# Altium schematic symbol library 2022-03-20_17-57-44.SchLib: 31 symbols
Pins are listed as number, name and electrical type; pins without a type are passive.

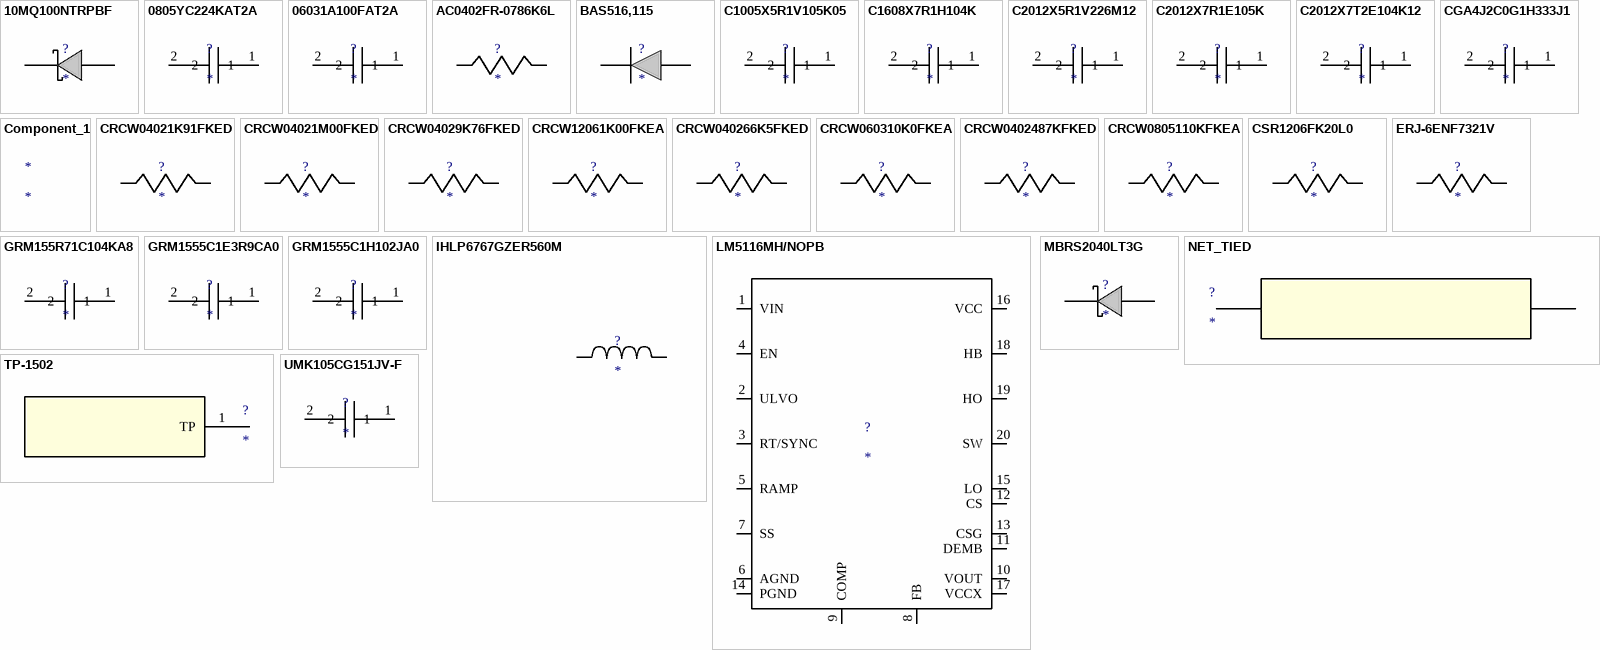
[diagram p0: symbols 10MQ100NTRPBF to UMK105CG151JV-F]

## 10MQ100NTRPBF
designator ?
No Description Available; Manufacturer_Part_Number: 10MQ100NTRPBF; Vendor: International Rectifier; Copyright: Copyright (C) 2018 Accelerated Designs. All rights reserved; RefDes: RefDes; Type: Type; Value: Value
footprint SMA
pins: 1 K, 2 A

## 0805YC224KAT2A
designator ?
No Description Available; Manufacturer_Part_Number: 0805YC224KAT2A; Vendor: AVX; Copyright: Copyright (C) 2018 Accelerated Designs. All rights reserved; RefDes: RefDes; TYPE: TYPE; Value: Value
footprint 0805
pins: 1, 2

## 06031A100FAT2A
designator ?
No Description Available; Manufacturer_Part_Number: 06031A100FAT2A; Vendor: AVX; Copyright: Copyright (C) 2018 Accelerated Designs. All rights reserved; RefDes: RefDes; TYPE: TYPE; Value: Value
footprint 0603
pins: 1, 2

## AC0402FR-0786K6L
designator ?
No Description Available; Manufacturer_Part_Number: AC0402FR-0786K6L; Vendor: Yageo America; Copyright: Copyright (C) 2018 Accelerated Designs. All rights reserved; RefDes: RefDes; TYPE: TYPE; Value: Value
footprint 0402
pins: 1, 2

## BAS516,115
designator ?
No Description Available; Manufacturer_Part_Number: BAS516,115; Vendor: Nexperia; Copyright: Copyright (C) 2018 Accelerated Designs. All rights reserved; RefDes: RefDes; Type: Type; Value: Value
footprint SOD-523
pins: 1 K, 2 A

## C1005X5R1V105K05
designator ?
No Description Available; Manufacturer_Part_Number: C1005X5R1V105K050BC; Vendor: TDK; Copyright: Copyright (C) 2018 Accelerated Designs. All rights reserved; RefDes: RefDes; TYPE: TYPE; Value: Value
footprint 0402
pins: 1, 2

## C1608X7R1H104K
designator ?
No Description Available; Manufacturer_Part_Number: C1608X7R1H104K; Vendor: TDK; Copyright: Copyright (C) 2018 Accelerated Designs. All rights reserved; RefDes: RefDes; TYPE: TYPE; Value: Value
footprint 1608
pins: 1, 2

## C2012X5R1V226M12
designator ?
No Description Available; Manufacturer_Part_Number: C2012X5R1V226M125AC; Vendor: TDK; Copyright: Copyright (C) 2018 Accelerated Designs. All rights reserved; RefDes: RefDes; TYPE: TYPE; Value: Value
footprint 0805
pins: 1, 2

## C2012X7R1E105K
designator ?
No Description Available; Manufacturer_Part_Number: C2012X7R1E105K; Vendor: TDK; Copyright: Copyright (C) 2018 Accelerated Designs. All rights reserved; RefDes: RefDes; TYPE: TYPE; Value: Value
footprint 0805
pins: 1, 2

## C2012X7T2E104K12
designator ?
No Description Available; Manufacturer_Part_Number: C2012X7T2E104K125AA; Vendor: TDK; Copyright: Copyright (C) 2018 Accelerated Designs. All rights reserved; RefDes: RefDes; TYPE: TYPE; Value: Value
footprint 0805
pins: 1, 2

## CGA4J2C0G1H333J1
designator ?
No Description Available; Manufacturer_Part_Number: CGA4J2C0G1H333J125AA; Vendor: TDK; Copyright: Copyright (C) 2018 Accelerated Designs. All rights reserved; RefDes: RefDes; TYPE: TYPE; Value: Value
footprint 0805
pins: 1, 2

## Component_1
designator *

## CRCW04021K91FKED
designator ?
No Description Available; Manufacturer_Part_Number: CRCW04021K91FKED; Vendor: Vishay-Dale; Copyright: Copyright (C) 2018 Accelerated Designs. All rights reserved; RefDes: RefDes; TYPE: TYPE; Value: Value
footprint 0402
pins: 1, 2

## CRCW04021M00FKED
designator ?
No Description Available; Manufacturer_Part_Number: CRCW04021M00FKED; Vendor: Vishay-Dale; Copyright: Copyright (C) 2018 Accelerated Designs. All rights reserved; RefDes: RefDes; TYPE: TYPE; Value: Value
footprint 0402
pins: 1, 2

## CRCW04029K76FKED
designator ?
No Description Available; Manufacturer_Part_Number: CRCW04029K76FKED; Vendor: Vishay-Dale; Copyright: Copyright (C) 2018 Accelerated Designs. All rights reserved; RefDes: RefDes; TYPE: TYPE; Value: Value
footprint 0402
pins: 1, 2

## CRCW12061K00FKEA
designator ?
No Description Available; Manufacturer_Part_Number: CRCW12061K00FKEA; Vendor: Vishay-Dale; Copyright: Copyright (C) 2018 Accelerated Designs. All rights reserved; RefDes: RefDes; TYPE: TYPE; Value: Value
footprint 1206
pins: 1, 2

## CRCW040266K5FKED
designator ?
No Description Available; Manufacturer_Part_Number: CRCW040266K5FKED; Vendor: Vishay-Dale; Copyright: Copyright (C) 2018 Accelerated Designs. All rights reserved; RefDes: RefDes; TYPE: TYPE; Value: Value
footprint 0402
pins: 1, 2

## CRCW060310K0FKEA
designator ?
No Description Available; Manufacturer_Part_Number: CRCW060310K0FKEA; Vendor: Vishay-Dale; Copyright: Copyright (C) 2018 Accelerated Designs. All rights reserved; RefDes: RefDes; TYPE: TYPE; Value: Value
footprint 0603
pins: 1, 2

## CRCW0402487KFKED
designator ?
No Description Available; Manufacturer_Part_Number: CRCW0402487KFKED; Vendor: Vishay-Dale; Copyright: Copyright (C) 2018 Accelerated Designs. All rights reserved; RefDes: RefDes; TYPE: TYPE; Value: Value
footprint 0402
pins: 1, 2

## CRCW0805110KFKEA
designator ?
No Description Available; Manufacturer_Part_Number: CRCW0805110KFKEA; Vendor: Vishay-Dale; Copyright: Copyright (C) 2018 Accelerated Designs. All rights reserved; RefDes: RefDes; TYPE: TYPE; Value: Value
footprint 0805
pins: 1, 2

## CSR1206FK20L0
designator ?
No Description Available; Manufacturer_Part_Number: CSR1206FK20L0; Vendor: Stackpole Electronics Inc; Copyright: Copyright (C) 2018 Accelerated Designs. All rights reserved; RefDes: RefDes; TYPE: TYPE; Value: Value
footprint 1206
pins: 1, 2

## ERJ-6ENF7321V
designator ?
No Description Available; Manufacturer_Part_Number: ERJ-6ENF7321V; Vendor: Panasonic; Copyright: Copyright (C) 2018 Accelerated Designs. All rights reserved; RefDes: RefDes; TYPE: TYPE; Value: Value
footprint 0805
pins: 1, 2

## GRM155R71C104KA8
designator ?
No Description Available; Manufacturer_Part_Number: GRM155R71C104KA88D; Vendor: MuRata; Copyright: Copyright (C) 2018 Accelerated Designs. All rights reserved; RefDes: RefDes; TYPE: TYPE; Value: Value
footprint 0402
pins: 1, 2

## GRM1555C1E3R9CA0
designator ?
No Description Available; Manufacturer_Part_Number: GRM1555C1E3R9CA01D; Vendor: MuRata; Copyright: Copyright (C) 2018 Accelerated Designs. All rights reserved; RefDes: RefDes; TYPE: TYPE; Value: Value
footprint 0402
pins: 1, 2

## GRM1555C1H102JA0
designator ?
No Description Available; Manufacturer_Part_Number: GRM1555C1H102JA01J; Vendor: MuRata; Copyright: Copyright (C) 2018 Accelerated Designs. All rights reserved; RefDes: RefDes; TYPE: TYPE; Value: Value
footprint 0402
pins: 1, 2

## IHLP6767GZER560M
designator ?
No Description Available; Manufacturer_Part_Number: IHLP6767GZER560M11; Vendor: Vishay-Dale; Copyright: Copyright (C) 2018 Accelerated Designs. All rights reserved; RefDes: RefDes; TYPE: TYPE; Value: Value
footprint IHLP-6767GZ
pins: 1, 2

## LM5116MH/NOPB
designator ?
No Description Available; Manufacturer_Part_Number: LM5116MH/NOPB; Vendor: Texas Instruments; Copyright: Copyright (C) 2018 Accelerated Designs. All rights reserved; RefDes: RefDes; TYPE: TYPE; Value: Value
footprint MXA20A
pins: 1 VIN, 2 ULVO, 3 RT/SYNC, 4 EN, 5 RAMP, 6 AGND, 7 SS, 8 FB, 9 COMP, 10 VOUT, 11 DEMB, 12 CS, 13 CSG, 14 PGND, 15 LO, 16 VCC, 17 VCCX, 18 HB, 19 HO, 20 SW, 21 PGND

## MBRS2040LT3G
designator ?
No Description Available; Manufacturer_Part_Number: MBRS2040LT3G; Vendor: ON Semiconductor; Copyright: Copyright (C) 2018 Accelerated Designs. All rights reserved; RefDes: RefDes; Type: Type; Value: Value
footprint SMB
pins: 1 K, 2 A

## NET_TIED
designator ?
No Description Available; Copyright: Copyright (C) 2018 Accelerated Designs. All rights reserved; Value: Value; Type: Type; RefDes: RefDes
footprint NET_TIED
pins: 1 PIN1, 2 PIN2

## TP-1502
designator ?
No Description Available; Copyright: Copyright (C) 2018 Accelerated Designs. All rights reserved; Value: Value; Type: Type; RefDes: RefDes
footprint TP-1502
pins: 1 TP

## UMK105CG151JV-F
designator ?
No Description Available; Manufacturer_Part_Number: UMK105CG151JV-F; Vendor: Taiyo Yuden; Copyright: Copyright (C) 2018 Accelerated Designs. All rights reserved; RefDes: RefDes; TYPE: TYPE; Value: Value
footprint 0402
pins: 1, 2